# EAGLE library part LTC2946 (library RalimTek)
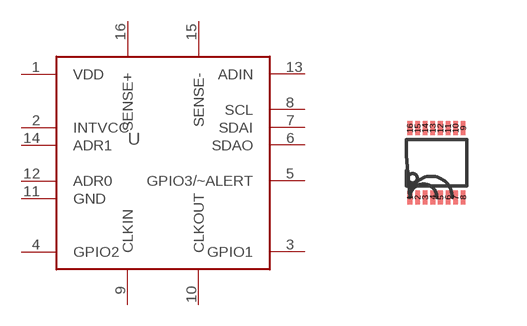
[diagram p26: symbol with the pads of MSOP16(MS); footprint MSOP16(MS)]

Designator prefix -

## LTC2946  [MSOP16(MS)]
1  VDD
2  INTVCC
3  GPIO1
4  GPIO2
5  GPIO3/~ALERT
6  SDAO
7  SDAI
8  SCL
9  CLKIN
10  CLKOUT
11  GND
12  ADR0
13  ADIN
14  ADR1
15  SENSE-
16  SENSE+

## Footprint MSOP16(MS) (pad centres in mm)
Package generated from: MSOP16(MS).asc (!PADS-POWERPCB-V9.3-BASIC! DESIGN DATABASE ASCII FILE 1.0) with :import-pads-powerpcb-v5.ulp Version 1.0.1 at 04.10.2012 14:11:19
smd 0.116 x 0.348: 1 0,0; 2 0.191,0; 3 0.381,0; 4 0.572,0; 5 0.763,0; 6 0.952,0; 7 1.143,0; 8 1.333,0; 9 1.333,1.734; 10 1.143,1.734; 11 0.952,1.734; 12 0.762,1.734; 13 0.571,1.734; 14 0.381,1.734; 15 0.19,1.734; 16 0,1.734